# EAGLE library part CP2102/9 (library usb)
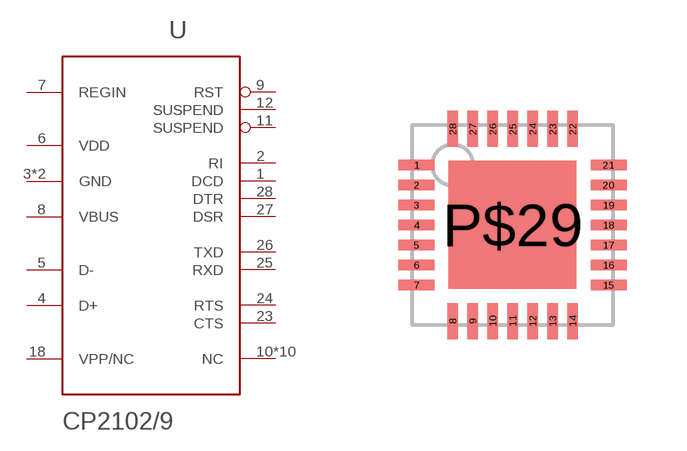
[diagram p19: symbol with the pads of QFN-28; footprint QFN-28]

Designator prefix U

## CP2102/9  [QFN-28]
1  DCD
2  RI
3  GND  pwr
4  D+
5  D-
6  VDD
7  REGIN
8  VBUS
9  RST
10  NC
11  SUSPEND
12  SUSPEND
13  NC
14  NC
15  NC
16  NC
17  NC
18  VPP/NC
19  NC
20  NC
21  NC
22  NC
23  CTS
24  RTS
25  RXD
26  TXD
27  DSR
28  DTR
P$29  GND  pwr

## Footprint QFN-28 (pad centres in mm)
smd 0.9 x 0.27: 1 -2.4,1.5; 2 -2.4,1; 3 -2.4,0.5; 4 -2.4,0; 5 -2.4,-0.5; 6 -2.4,-1; 7 -2.4,-1.5; 15 2.4,-1.5; 16 2.4,-1; 17 2.4,-0.5; 18 2.4,0; 19 2.4,0.5; 20 2.4,1; 21 2.4,1.5
smd 0.27 x 0.9: 8 -1.5,-2.4; 9 -1,-2.4; 10 -0.5,-2.4; 11 0,-2.4; 12 0.5,-2.4; 13 1,-2.4; 14 1.5,-2.4; 22 1.5,2.4; 23 1,2.4; 24 0.5,2.4; 25 0,2.4; 26 -0.5,2.4; 27 -1,2.4; 28 -1.5,2.4
smd 3.2 x 3.2: P$29 0,0